# Altium footprint library FU_1812.PcbLib: 1 footprints
Each footprint in its own frame and in the unit in brackets; x right, y up, seen from the top. Pads: shape width x height; smd on the part's side, far side on the other; paste and mask are expansions set on the pad; w line width, h text height; cw(c..) or ccw(c..) is an arc to the next point about the centre after c.
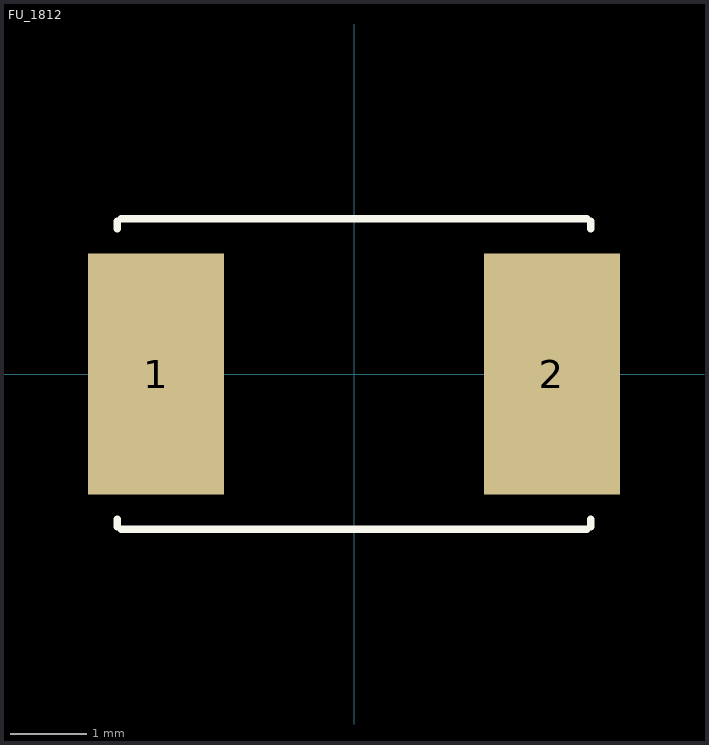
[diagram p0: the footprint, top view; thin cyan lines are the x and y axes]

## FU_1812 [mil] "FU_1812"
pads (2):
  rect 70x124 smd: 1(-102,0) 2(102,0)
Top Overlay:
  lines w3.94: -122.05,-78.74 -122.05,-74.8 ; -122.05,74.8 -122.05,78.74 ; 122.05,-78.74 122.05,-74.8 ; 122.05,74.8 122.05,78.74
  lines w4: -120,-80 120,-80 ; -120,80 120,80
3D body: height 52.8, standoff 0, extent -93.1,-67.12 93.12,67.13